# Altium footprint library Button_SMD_6x6.PcbLib: 1 footprints
Each footprint in its own frame and in the unit in brackets; x right, y up, seen from the top. Pads: shape width x height; smd on the part's side, far side on the other; paste and mask are expansions set on the pad; w line width, h text height; cw(c..) or ccw(c..) is an arc to the next point about the centre after c.
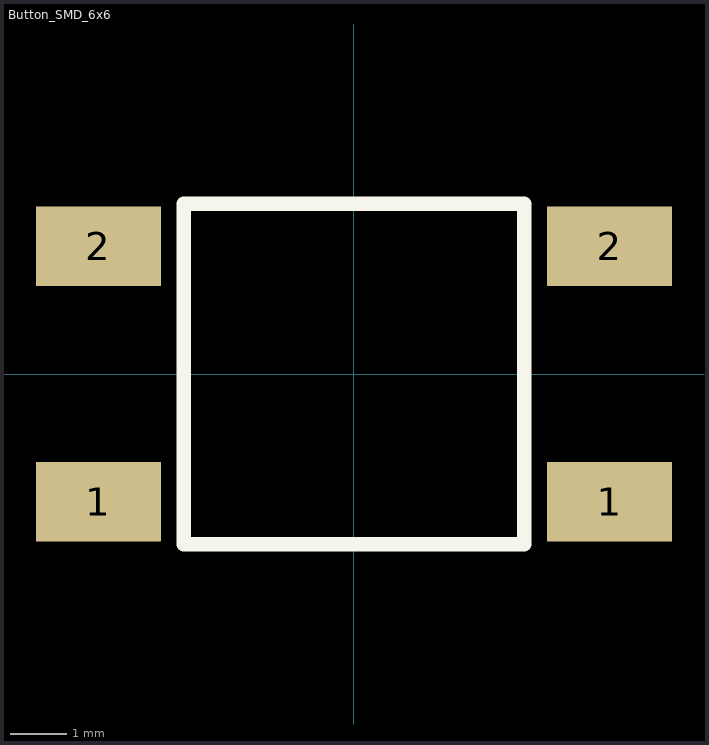
[diagram p0: the footprint, top view; thin cyan lines are the x and y axes]

## Button_SMD_6x6 [mm]
pads (4):
  rect 2.2x1.4 smd: 1(-4.5,-2.25) 1(4.5,-2.25) 2(-4.5,2.25) 2(4.5,2.25)
Top Overlay:
  lines w0.254: -3,-3 -3,3 3,3 3,-3 -3,-3
3D body "TL3301FF160QG--3DModel-STEP-418109.STEP": height 7.1, standoff 0, extent -5,-3 5,3